# Altium schematic symbol library 1-1734592-0.Schlib: 1 symbol
Pins are listed as number, name and electrical type; pins without a type are passive.

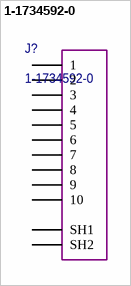
[diagram p0: symbol 1-1734592-0]

## 1-1734592-0
designator J?
pins: 1, 2, 3, 4, 5, 6, 7, 8, 9, 10, SH1, SH2